# Altium footprint library PCB - CONNECTOR - NET TIE 1 TO 1 300U.PCBLIB: 1 footprints
Each footprint in its own frame and in the unit in brackets; x right, y up, seen from the top. Pads: shape width x height; smd on the part's side, far side on the other; paste and mask are expansions set on the pad; w line width, h text height; cw(c..) or ccw(c..) is an arc to the next point about the centre after c.
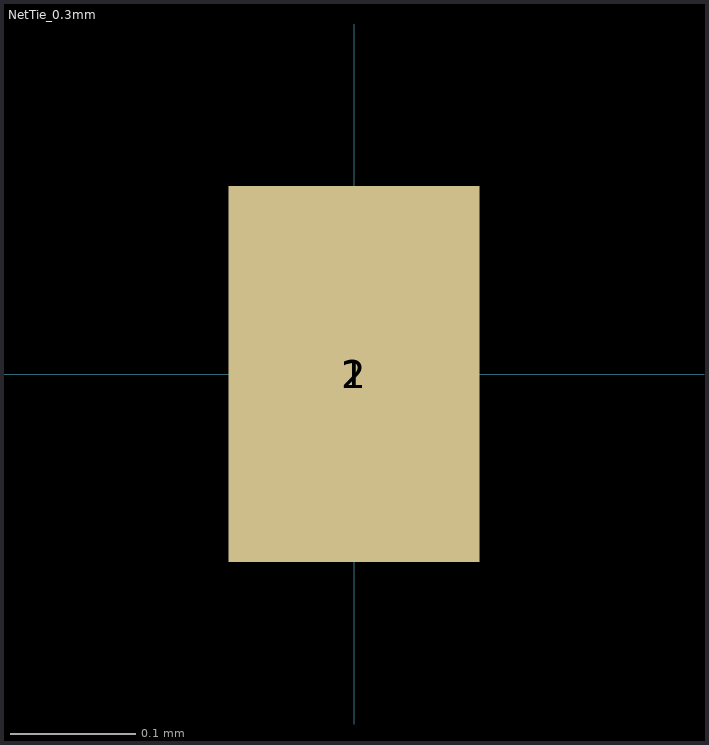
[diagram p0: the footprint, top view; thin cyan lines are the x and y axes]

## NetTie_0.3mm [mm] "Net Tie with 0.3mm pad width"
pads (2):
  rect 0.2x0.3 smd mask+0.102: 1(0,0)
  rect 0.2x0.3 smd: 2(0,0)